# Altium footprint library Capacitors THD.PcbLib: 270 footprints (part 9 of 17)
Each footprint in its own frame and in the unit in brackets; x right, y up, seen from the top. Pads: shape width x height; smd on the part's side, far side on the other; paste and mask are expansions set on the pad; w line width, h text height; cw(c..) or ccw(c..) is an arc to the next point about the centre after c.
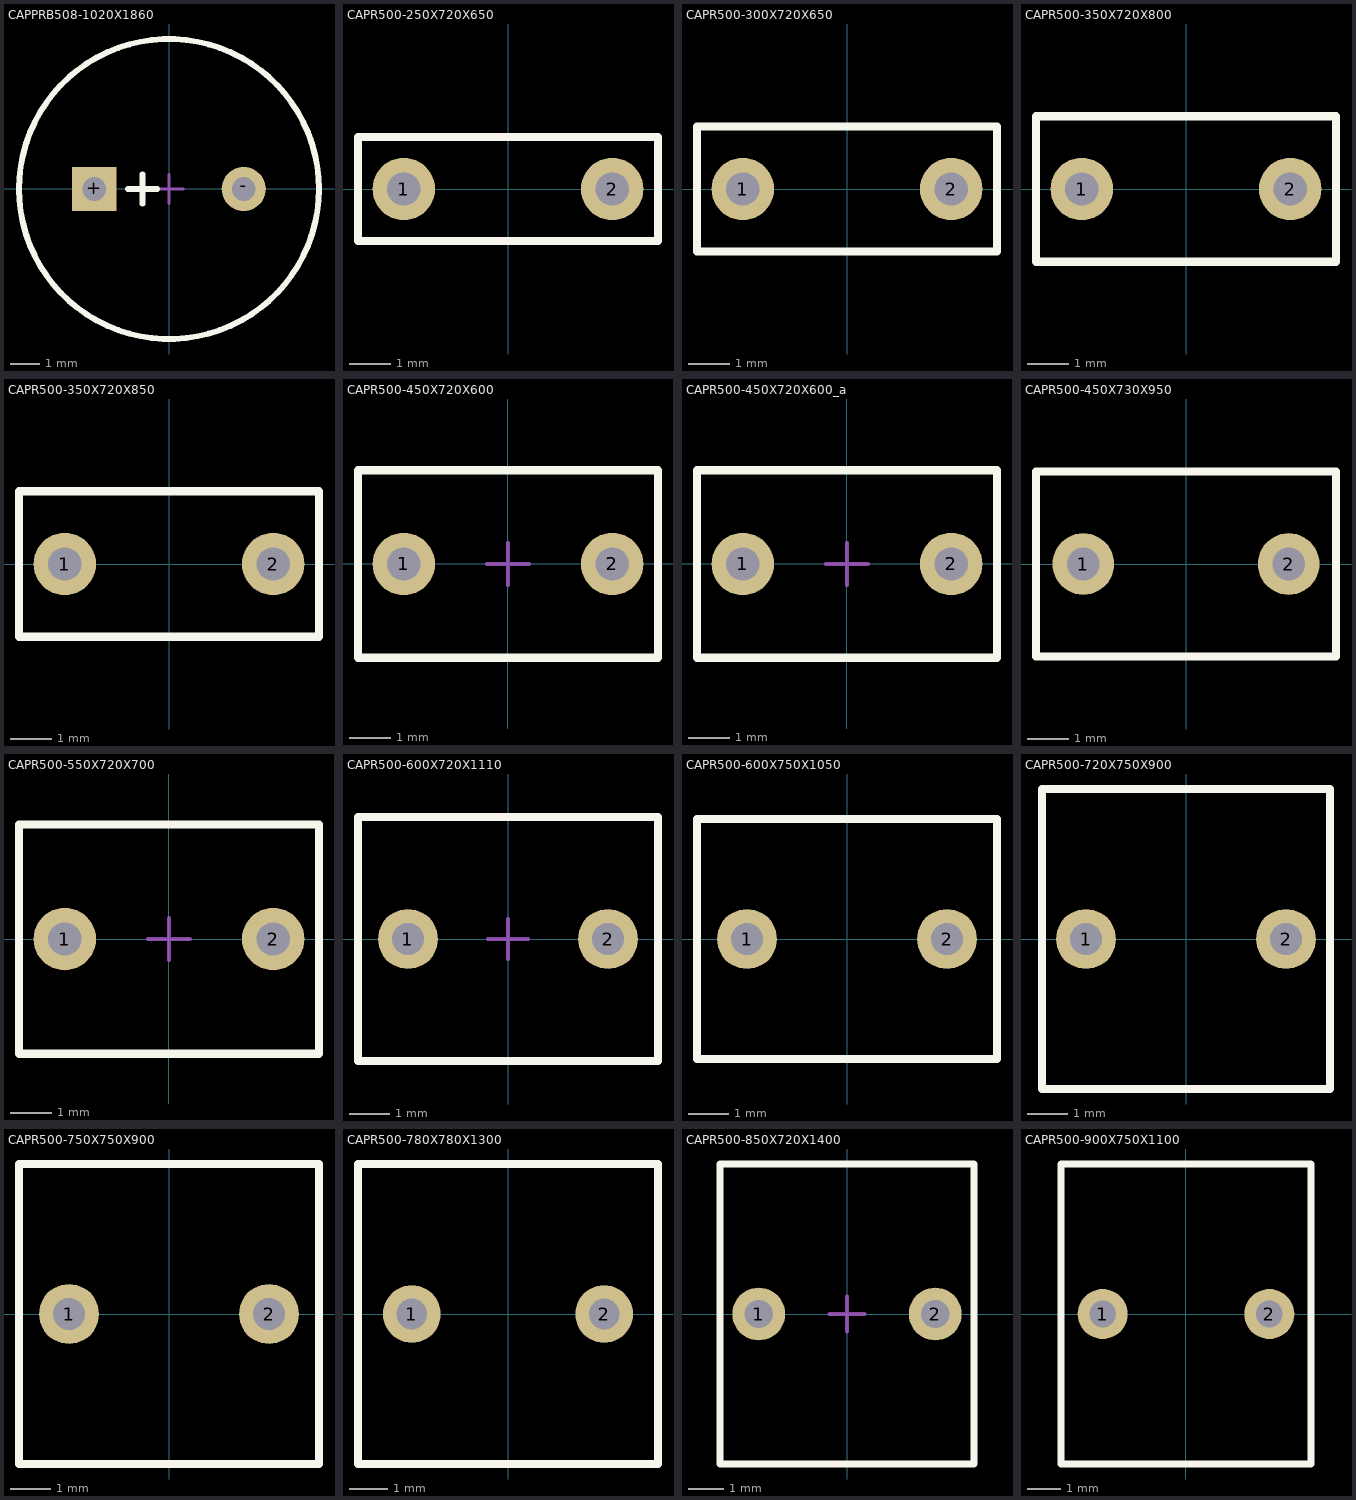
[diagram p8: the footprints below, top view; thin cyan lines are the x and y axes]

## CAPPRB508-1020X1860 [mm] "Capacitor, Polarized Radial Bead, Pin spacing 5.08mm - Body Diameter 10.2mm X Body Height 18.6mm"
height 18.6
pads (2):
  rect 1.5x1.5 hole 0.8: +(-2.54,0)
  round 1.5 hole 0.8: -(2.54,0)
Top Overlay:
  circle w0.2: c0,0 r5.1
  lines w0.2: -1.4,0 -0.4,0 ; -0.9,-0.5 -0.9,0.5
Mechanical 8:
  lines w0.1: -3.04,0 -2.54,0 ; -2.54,-0.5 -2.54,0 ; -2.54,0.5 -2.54,0 ; -2.04,0 -2.54,0 ; -0.5,0 0,0 ; 0,-0.5 0,0 ; 0,0.5 0,0 ; 0.5,0 0,0 ; 2.04,0 2.54,0 ; 2.54,-0.5 2.54,0 ; 2.54,0.5 2.54,0 ; 3.04,0 2.54,0
Mechanical 14:
  circle w0.1: c0,0 r5.1
  lines w0.1: -1.4,0 -0.4,0 ; -0.9,-0.5 -0.9,0.5
3D body "CAPPRB508-1020X1860.stp": height 18.6, standoff -2.91, extent -5.1,-5.1 5.1,5.1

## CAPR500-250X720X650 [mm] "Capacitor Radial, Pin spacing 5.0mm - Body With 2.5mm X Body Length 7.2mm X Body Height 6.5mm"
height 6.5
pads (2):
  round 1.5 hole 0.8: 1(-2.5,0) 2(2.5,0)
Top Overlay:
  lines w0.2: -3.6,-1.25 3.6,-1.25 3.6,1.25 -3.6,1.25 -3.6,-1.25
Mechanical 13:
  lines w0.1: -3.6,-1.25 -3.6,1.25 3.6,1.25 3.6,-1.25 -3.6,-1.25
Mechanical 14:
  lines w0.1: -3.6,-1.25 3.6,-1.25 3.6,1.25 -3.6,1.25 -3.6,-1.25
3D body "CAPR500-250X720X650.stp": height 6.5, standoff -3.8, extent -3.599,-1.249 3.601,1.251

## CAPR500-300X720X650 [mm] "Capacitor Radial, Pin spacing 5.0mm - Body With 3.0mm X Body Length 7.2mm X Body Height 6.5mm"
height 6.5
pads (2):
  round 1.5 hole 0.8: 1(-2.5,0) 2(2.5,0)
Top Overlay:
  lines w0.2: -3.6,-1.5 3.6,-1.5 3.6,1.5 -3.6,1.5 -3.6,-1.5
Mechanical 13:
  lines w0.1: -3.6,-1.5 -3.6,1.5 3.6,1.5 3.6,-1.5 -3.6,-1.5
Mechanical 14:
  lines w0.1: -3.6,-1.5 3.6,-1.5 3.6,1.5 -3.6,1.5 -3.6,-1.5
3D body "CAPR500-300X720X650.stp": height 6.5, standoff -3.8, extent -3.599,-1.499 3.601,1.501

## CAPR500-350X720X800 [mm] "Capacitor Radial, Pin spacing 5.0mm - Body With 3.5mm X Body Length 7.2mm X Body Height 8mm"
height 8
pads (2):
  round 1.5 hole 0.8: 1(-2.5,0) 2(2.5,0)
Top Overlay:
  lines w0.2: -3.6,-1.75 3.6,-1.75 3.6,1.75 -3.6,1.75 -3.6,-1.75
Mechanical 13:
  lines w0.1: -3.6,-1.75 -3.6,1.75 3.6,1.75 3.6,-1.75 -3.6,-1.75
Mechanical 14:
  lines w0.1: -3.6,-1.75 3.6,-1.75 3.6,1.75 -3.6,1.75 -3.6,-1.75
3D body "CAPR500-350X720X800.stp": height 8, standoff -3.8, extent -3.599,-1.749 3.601,1.751

## CAPR500-350X720X850 [mm] "Capacitor Radial, Pin spacing 5.0mm - Body With 3.5mm X Body Length 7.2mm X Body Height 8.5mm"
height 8.5
pads (2):
  round 1.5 hole 0.8: 1(-2.5,0) 2(2.5,0)
Top Overlay:
  lines w0.2: -3.6,-1.75 -3.6,1.75 3.6,1.75 3.6,-1.75 -3.6,-1.75
Mechanical 13:
  lines w0.1: -3.6,-1.75 3.6,-1.75 3.6,1.75 -3.6,1.75 -3.6,-1.75
Mechanical 14:
  lines w0.1: -3.6,-1.75 -3.6,1.75 3.6,1.75 3.6,-1.75 -3.6,-1.75
3D body "CAPR500-350X720X850.stp": height 8.5, standoff -3.8, extent -3.599,-1.749 3.601,1.751

## CAPR500-450X720X600 [mm] "Capacitor Radial, Pin spacing 5.0mm - Body With 4.5mm X Body Length 7.2mm X Body Height 6mm"
height 6
pads (2):
  round 1.5 hole 0.8: 1(-2.5,0) 2(2.5,0)
Top Overlay:
  lines w0.2: -3.6,-2.25 3.6,-2.25 3.6,2.25 -3.6,2.25 -3.6,-2.25
Mechanical 8:
  lines w0.1: -3,0 -2.5,0 ; -2.5,-0.5 -2.5,0 ; -2.5,0.5 -2.5,0 ; -2,0 -2.5,0 ; -0.5,0 0,0 ; 0,-0.5 0,0 ; 0,0.5 0,0 ; 0.5,0 0,0 ; 2,0 2.5,0 ; 2.5,-0.5 2.5,0 ; 2.5,0.5 2.5,0 ; 3,0 2.5,0
Mechanical 14:
  lines w0.1: -3.6,-2.25 3.6,-2.25 3.6,2.25 -3.6,2.25 -3.6,-2.25
3D body "CAPR500-450X720X600.stp": height 6, standoff -3.2, extent -3.6,-2.25 3.6,2.25

## CAPR500-450X720X600_a [mm] "Capacitor Radial, Pin spacing 5.0mm - Body With 4.5mm X Body Length 7.2mm X Body Height 6mm"
height 6
pads (2):
  round 1.5 hole 0.8: 1(-2.5,0) 2(2.5,0)
Top Overlay:
  lines w0.2: -3.6,-2.25 -3.6,2.25 3.6,2.25 3.6,-2.25 -3.6,-2.25
Mechanical 8:
  lines w0.1: -3,0 -2.5,0 ; -2.5,-0.5 -2.5,0 ; -2.5,0.5 -2.5,0 ; -2,0 -2.5,0 ; -0.5,0 0,0 ; 0,-0.5 0,0 ; 0,0.5 0,0 ; 0.5,0 0,0 ; 2,0 2.5,0 ; 2.5,-0.5 2.5,0 ; 2.5,0.5 2.5,0 ; 3,0 2.5,0
Mechanical 14:
  lines w0.1: -3.6,-2.25 -3.6,2.25 3.6,2.25 3.6,-2.25 -3.6,-2.25
3D body "CAPR500-450X720X600_a.stp": height 6, standoff -3.2, extent -3.6,-2.25 3.6,2.25

## CAPR500-450X730X950 [mm] "Capacitor Radial, Pin spacing 5.0mm - Body With 4.5mm X Body Length 7.3mm X Body Height 9.5mm"
height 9.5
pads (2):
  round 1.5 hole 0.8: 1(-2.5,0) 2(2.5,0)
Top Overlay:
  lines w0.2: -3.65,-2.25 -3.65,2.25 3.65,2.25 3.65,-2.25 ; -3.6,-2.25 3.6,-2.25
Mechanical 13:
  lines w0.1: -3.65,-2.25 3.65,-2.25 3.65,2.25 -3.65,2.25 -3.65,-2.25
Mechanical 14:
  lines w0.1: -3.65,-2.25 -3.65,2.25 3.65,2.25 3.65,-2.25 -3.65,-2.25
3D body "CAPR500-450X730X950.stp": height 9.5, standoff -3.8, extent -3.649,-2.249 3.651,2.251

## CAPR500-550X720X700 [mm] "Capacitor Radial, Pin spacing 5.0mm - Body With 5.5mm X Body Length 7.2mm X Body Height 7mm"
height 7
pads (2):
  round 1.5 hole 0.8: 1(-2.5,0) 2(2.5,0)
Top Overlay:
  lines w0.2: -3.6,-2.75 3.6,-2.75 3.6,2.75 -3.6,2.75 ; -3.6,-2.75 -3.6,2.75
Mechanical 8:
  lines w0.1: -3,0 -2.5,0 ; -2.5,-0.5 -2.5,0 ; -2.5,0.5 -2.5,0 ; -2,0 -2.5,0 ; -0.5,0 0,0 ; 0,-0.5 0,0 ; 0,0.5 0,0 ; 0.5,0 0,0 ; 2,0 2.5,0 ; 2.5,-0.5 2.5,0 ; 2.5,0.5 2.5,0 ; 3,0 2.5,0
Mechanical 14:
  lines w0.1: -3.6,-2.75 3.6,-2.75 3.6,2.75 -3.6,2.75 ; -3.6,-2.75 -3.6,2.75
3D body "CAPR500-550X720X700.stp": height 7, standoff -3.2, extent -3.6,-2.75 3.6,2.75

## CAPR500-600X720X1110 [mm] "Capacitor Radial, Pin spacing 5.0mm - Body With 6mm X Body Length 7.2mm X Body Height 11.1mm"
height 11.1
pads (2):
  round 1.5 hole 0.8: 1(-2.5,0) 2(2.5,0)
Top Overlay:
  lines w0.2: -3.75,-3.05 3.75,-3.05 3.75,3.05 -3.75,3.05 -3.75,-3.05
Mechanical 4:
  lines w0.1: -3,0 -2.5,0 ; -2.5,-0.5 -2.5,0 ; -2.5,0.5 -2.5,0 ; -2,0 -2.5,0 ; -0.5,0 0,0 ; 0,-0.5 0,0 ; 0,0.5 0,0 ; 0.5,0 0,0 ; 2,0 2.5,0 ; 2.5,-0.5 2.5,0 ; 2.5,0.5 2.5,0 ; 3,0 2.5,0
Mechanical 14:
  lines w0.1: -3.75,-3.05 -3.75,3.05 3.75,3.05 3.75,-3.05 -3.75,-3.05
3D body "CAPR500-600X720X1110.stp": height 11.1, standoff -3.8, extent -3.75,-3.05 3.75,3.05

## CAPR500-600X750X1050 [mm] "Capacitor Radial, Pin spacing 5.0mm - Body Width 6mm X Body Length 7.5mm X Body Height 10.5mm"
height 10.5
pads (2):
  round 1.5 hole 0.8: 1(-2.5,0) 2(2.5,0)
Top Overlay:
  lines w0.2: -3.75,-3 -3.75,3 3.75,3 3.75,-3 -3.75,-3
Mechanical 13:
  lines w0.1: -3.75,-3 3.75,-3 3.75,3 -3.75,3 -3.75,-3
Mechanical 14:
  lines w0.1: -3.75,-3 -3.75,3 3.75,3 3.75,-3 -3.75,-3
3D body "CAPR500-600X750X1050.stp": height 10.5, standoff -3.8, extent -3.749,-2.999 3.751,3.001

## CAPR500-720X750X900 [mm] "Capacitor Radial, Pin spacing 5.0mm - Body With 7.2mm X Body Length 7.5mm X Body Height 9mm"
height 9
pads (2):
  round 1.5 hole 0.8: 1(-2.5,0) 2(2.5,0)
Top Overlay:
  lines w0.2: -3.6,-3.75 3.6,-3.75 3.6,3.75 -3.6,3.75 -3.6,-3.75
Mechanical 14:
  lines w0.1: -3.6,-3.75 -3.6,3.75 3.6,3.75 3.6,-3.75 -3.6,-3.75
3D body "CAPR500-720X750X900.stp": height 9, standoff -3.2, extent -3.6,-3.75 3.6,3.75

## CAPR500-750X750X900 [mm] "Capacitor Radial, Pin spacing 5.0mm - Body With 7.5mm X Body Length 7.5mm X Body Height 9mm"
height 9
pads (2):
  round 1.5 hole 0.8: 1(-2.5,0) 2(2.5,0)
Top Overlay:
  lines w0.2: -3.75,-3.75 3.75,-3.75 3.75,3.75 -3.75,3.75 -3.75,-3.75
Mechanical 14:
  lines w0.1: -3.75,-3.75 3.75,-3.75 3.75,3.75 -3.75,3.75 -3.75,-3.75
3D body "CAPR500-750X750X900.stp": height 9, standoff -3.8, extent -3.749,-3.749 3.751,3.751

## CAPR500-780X780X1300 [mm] "Capacitor Radial, Pin spacing 5.0mm - Body With 7.8mm X Body Length 7.8mm X Body Height 13mm"
height 13
pads (2):
  round 1.5 hole 0.8: 1(-2.5,0) 2(2.5,0)
Top Overlay:
  lines w0.2: -3.9,-3.9 -3.9,3.9 3.9,3.9 3.9,-3.9 -3.9,-3.9
Mechanical 13:
  lines w0.1: -3.9,-3.9 3.9,-3.9 3.9,3.9 -3.9,3.9 -3.9,-3.9
Mechanical 14:
  lines w0.1: -3.9,-3.9 -3.9,3.9 3.9,3.9 3.9,-3.9 -3.9,-3.9
3D body "CAPR500-780X780X1300.stp": height 13, standoff -3.8, extent -3.899,-3.899 3.901,3.901

## CAPR500-850X720X1400 [mm] "Capacitor Radial, Pin spacing 5.0mm - Body With 8.5mm X Body Length 7.2mm X Body Height 14mm"
height 14
pads (2):
  round 1.5 hole 0.8: 1(-2.5,0) 2(2.5,0)
Top Overlay:
  lines w0.2: -3.6,-4.25 -3.6,4.25 3.6,4.25 3.6,-4.25 -3.6,-4.25
Mechanical 8:
  lines w0.1: -3,0 -2.5,0 ; -2.5,-0.5 -2.5,0 ; -2.5,0.5 -2.5,0 ; -2,0 -2.5,0 ; -0.5,0 0,0 ; 0,-0.5 0,0 ; 0,0.5 0,0 ; 0.5,0 0,0 ; 2,0 2.5,0 ; 2.5,-0.5 2.5,0 ; 2.5,0.5 2.5,0 ; 3,0 2.5,0
Mechanical 14:
  lines w0.1: -3.6,-4.25 -3.6,4.25 3.6,4.25 3.6,-4.25 -3.6,-4.25
3D body "CAPR500-850X720X1400.stp": height 14, standoff -3.6, extent -3.6,-4.25 3.6,4.25

## CAPR500-900X750X1100 [mm] "Capacitor Radial, Pin spacing 5.0mm - Body With 9mm X Body Length 7.5mm X Body Height 11mm"
height 11
pads (2):
  round 1.5 hole 0.8: 1(-2.5,0) 2(2.5,0)
Top Overlay:
  lines w0.2: 3.75,4.5 -3.75,4.5 -3.75,-4.5 3.75,-4.5 3.75,4.501
Mechanical 14:
  lines w0.1: -3.75,4.5 3.75,4.5 3.751,-4.499 -3.75,-4.5 -3.749,4.501
3D body "CAPR500-900X750X1100.stp": height 11, standoff -3.8, extent -3.749,-4.499 3.751,4.501